# EAGLE library part OPA2650E (library burr-brown)
Dual Wideband, Low Power Voltage Feedback Operational Amplifier
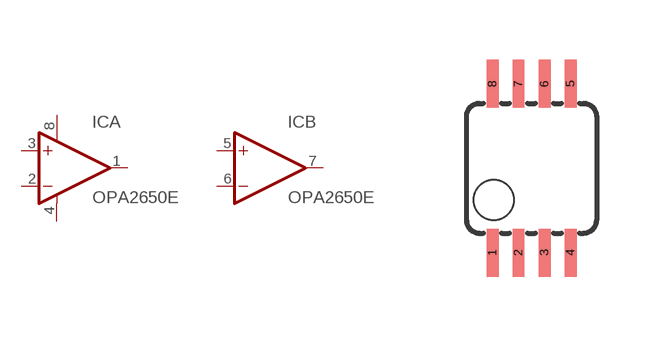
[diagram p154: symbol with the pads of MSOP-08; footprint MSOP-08]

Designator prefix IC; gates A=OP-AMP+- B=OP-AMP

## OPA2650E  [MSOP-08]
1  A:OUT  out
2  A:-IN  in
3  A:+IN  in
4  A:V-  pwr
5  B:+IN  in
6  B:-IN  in
7  B:OUT  out
8  A:V+  pwr

## Footprint MSOP-08 (pad centres in mm)
smd 0.3 x 1.2: 1 -0.976,-2.113; 2 -0.326,-2.113; 3 0.324,-2.113; 4 0.974,-2.113; 5 0.974,2.112; 6 0.324,2.112; 7 -0.326,2.112; 8 -0.976,2.112